# Altium integrated library Capacitor - Aluminium TH.IntLib: 4591 symbols (part 6 of 68)
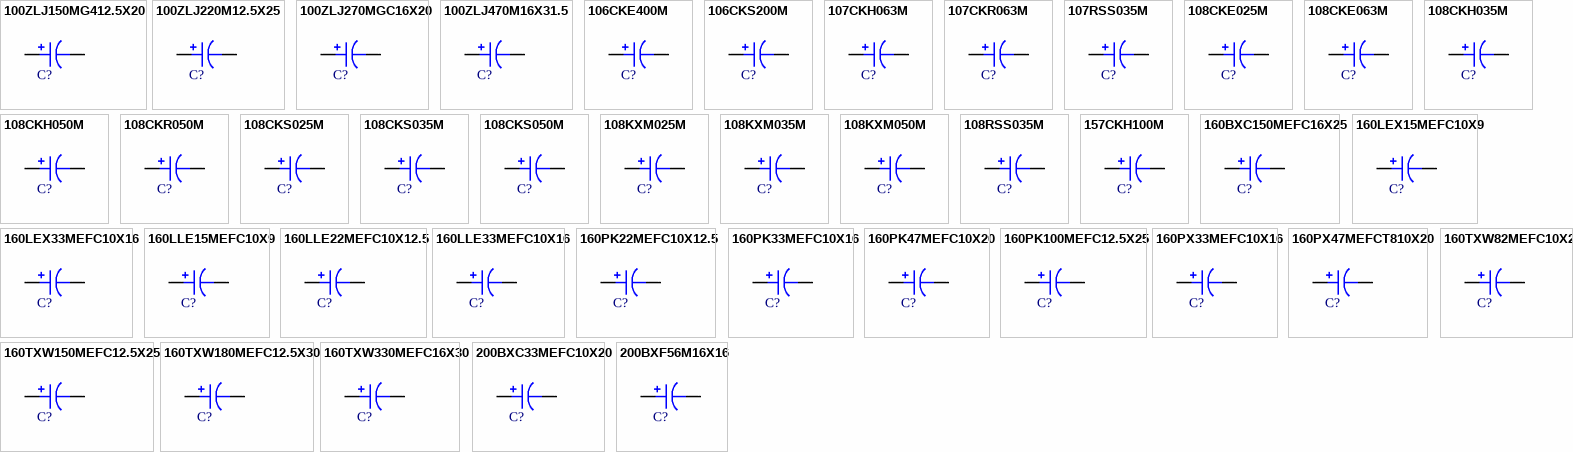
[diagram p119: symbols 100ZLJ150MG412.5X20 to 200BXF56M16X16]

## 108KXM050M
designator C?, comment 1000uF  (value not drawn)
RADIAL LOW Z; Part Number: 108KXM050M; Manufacturer: Illinois Capacitor; TemperatureRange: -55C ~ 105C; Tolerance: 20%; Voltage: 50V; Type: Polar; Ripple Current: 2.85A; Value: 1000uF; PartId: 26868; Supplier 1: Digi-Key; Supplier Part Number 1: 1572-1061-ND; ComponentLink1Description: Datasheet; ComponentLink1URL: http://www.illinoiscapacitor.com/pdf/seriesDocuments/KXM%20series.pdf; ComponentLink2Description: Digi-Key Listing; ComponentLink2URL: https://www.digikey.com/product-detail/en/illinois-capacitor/108KXM050M/1572-1061-ND/5343991; Price: 1.27; Device Package: Radial, Can, 16mm
footprint CAP AL TH D16 L7.5 H27
pins: 1, 2

## 108RSS035M
designator C?, comment 1000uF  (value not drawn)
CAP ALUM 1000UF 20% 35V T/H; Part Number: 108RSS035M; Manufacturer: Illinois Capacitor; TemperatureRange: -40C ~ 85C; Type: Polar; Ripple Current: 1A @ 120Hz; Value: 1000uF; PartId: 26213; Supplier 1: Digi-Key; Supplier Part Number 1: 1572-1320-ND; ComponentLink1Description: Datasheet; ComponentLink1URL: http://www.illinoiscapacitor.com/pdf/seriesDocuments/RSS%20series.pdf; ComponentLink2Description: Digi-Key Listing; ComponentLink2URL: https://www.digikey.com/product-detail/en/illinois-capacitor/108RSS035M/1572-1320-ND/5410893; Tolerance: 20%; Voltage: 35V; Price: 0.99; Device Package: Radial, Can, 16mm
footprint CAP AL TH D16 L7.5 H16.5
pins: 1, 2

## 157CKH100M
designator C?, comment 150uF  (value not drawn)
RADIAL 105C LYTIC; Part Number: 157CKH100M; Manufacturer: Illinois Capacitor; TemperatureRange: -40C ~ 105C; Tolerance: 20%; Voltage: 100V; Type: Polar; Ripple Current: 410mA; Value: 150uF; PartId: 23001; Supplier 1: Digi-Key; Supplier Part Number 1: 1572-1076-ND; ComponentLink1Description: Datasheet; ComponentLink1URL: http://www.illinoiscapacitor.com/pdf/seriesDocuments/CKH_CKE%20series.pdf; ComponentLink2Description: Digi-Key Listing; ComponentLink2URL: https://www.digikey.com/product-detail/en/illinois-capacitor/157CKH100M/1572-1076-ND/5344006; Price: 0; Device Package: Radial, Can, 12.5mm
footprint CAP AL TH D12.5 L5 H21.5
pins: 1, 2

## 160BXC150MEFC16X25
designator C?, comment 150uF  (value not drawn)
CAP ALUM 150UF 20% 160V RADIAL; Part Number: 160BXC150MEFC16X25; Manufacturer: Rubycon; TemperatureRange: -25C ~ 105C; Type: Polar; Ripple Current: 1.89A; Value: 150uF; PartId: 26915; Supplier 1: Digi-Key; Supplier Part Number 1: 1189-2178-ND; ComponentLink1Description: Datasheet; ComponentLink1URL: http://www.rubycon.co.jp/en/catalog/e_pdfs/aluminum/e_bxc.pdf; ComponentLink2Description: Digi-Key Listing; ComponentLink2URL: https://www.digikey.com/product-detail/en/rubycon/160BXC150MEFC16X25/1189-2178-ND/4842245; Tolerance: 20%; Voltage: 160V; Price: 1.65; Device Package: Radial, Can, 16mm
footprint CAP AL TH D16 L7.5 H27
pins: 1, 2

## 160LEX15MEFC10X9
designator C?, comment 15uF  (value not drawn)
CAP ALUM 15UF 20% 160V RADIAL; Part Number: 160LEX15MEFC10X9; Manufacturer: Rubycon; TemperatureRange: -40C ~ 125C; Type: Polar; Ripple Current: 95mA; Value: 15uF; PartId: 24473; Supplier 1: Digi-Key; Supplier Part Number 1: 1189-2696-ND; ComponentLink1Description: Datasheet; ComponentLink1URL: http://www.rubycon.co.jp/en/catalog/e_pdfs/aluminum/e_lex.pdf; ComponentLink2Description: Digi-Key Listing; ComponentLink2URL: https://www.digikey.com/product-detail/en/rubycon/160LEX15MEFC10X9/1189-2696-ND/5051825; Tolerance: 20%; Voltage: 160V; Price: 0.61; Device Package: Radial, Can, 10mm
footprint CAP AL TH D10 L5 H12.5
pins: 1, 2

## 160LEX33MEFC10X16
designator C?, comment 33uF  (value not drawn)
CAP ALUM 33UF 20% 160V RADIAL; Part Number: 160LEX33MEFC10X16; Manufacturer: Rubycon; TemperatureRange: -40C ~ 125C; Type: Polar; Ripple Current: 158mA; Value: 33uF; PartId: 25634; Supplier 1: Digi-Key; Supplier Part Number 1: 1189-2698-ND; ComponentLink1Description: Datasheet; ComponentLink1URL: http://www.rubycon.co.jp/en/catalog/e_pdfs/aluminum/e_lex.pdf; ComponentLink2Description: Digi-Key Listing; ComponentLink2URL: https://www.digikey.com/product-detail/en/rubycon/160LEX33MEFC10X16/1189-2698-ND/5051827; Tolerance: 20%; Voltage: 160V; Price: 0.72; Device Package: Radial, Can, 10mm
footprint CAP AL TH D10 L5 H22
pins: 1, 2

## 160LLE15MEFC10X9
designator C?, comment 15uF  (value not drawn)
CAP ALUM 15UF 20% 160V RADIAL; Part Number: 160LLE15MEFC10X9; Manufacturer: Rubycon; TemperatureRange: -40C ~ 105C; Ripple Current: 95mA; Value: 15uF; PartId: 24461; Supplier 1: Digi-Key; Supplier Part Number 1: 1189-1080-ND; ComponentLink1Description: Datasheet; ComponentLink1URL: http://www.rubycon.co.jp/en/catalog/e_pdfs/aluminum/e_lle.pdf; ComponentLink2Description: Digi-Key Listing; ComponentLink2URL: https://www.digikey.com/product-detail/en/rubycon/160LLE15MEFC10X9/1189-1080-ND/3134028; Tolerance: 20%; Voltage: 160V; Price: 0.51; Device Package: Radial, Can, 10mm
footprint CAP AL TH D10 L5 H12.5
pins: 1, 2

## 160LLE22MEFC10X12.5
designator C?, comment 22uF  (value not drawn)
CAP ALUM 22UF 20% 160V RADIAL; Part Number: 160LLE22MEFC10X12.5; Manufacturer: Rubycon; TemperatureRange: -40C ~ 105C; Ripple Current: 121mA; Value: 22uF; PartId: 24948; Supplier 1: Digi-Key; Supplier Part Number 1: 1189-1082-ND; ComponentLink1Description: Datasheet; ComponentLink1URL: http://www.rubycon.co.jp/en/catalog/e_pdfs/aluminum/e_lle.pdf; ComponentLink2Description: Digi-Key Listing; ComponentLink2URL: https://www.digikey.com/product-detail/en/rubycon/160LLE22MEFC10X12.5/1189-1082-ND/3134031; Tolerance: 20%; Voltage: 160V; Price: 0.52; Device Package: Radial, Can, 10mm
footprint CAP AL TH D10 L5 H14.5
pins: 1, 2

## 160LLE33MEFC10X16
designator C?, comment 33uF  (value not drawn)
CAP ALUM 33UF 20% 160V RADIAL; Part Number: 160LLE33MEFC10X16; Manufacturer: Rubycon; TemperatureRange: -40C ~ 105C; Ripple Current: 158mA; Value: 33uF; PartId: 25621; Supplier 1: Digi-Key; Supplier Part Number 1: 1189-1083-ND; ComponentLink1Description: Datasheet; ComponentLink1URL: http://www.rubycon.co.jp/en/catalog/e_pdfs/aluminum/e_lle.pdf; ComponentLink2Description: Digi-Key Listing; ComponentLink2URL: https://www.digikey.com/product-detail/en/rubycon/160LLE33MEFC10X16/1189-1083-ND/3134033; Tolerance: 20%; Voltage: 160V; Price: 0.7; Device Package: Radial, Can, 10mm
footprint CAP AL TH D10 L5 H22
pins: 1, 2

## 160PK22MEFC10X12.5
designator C?, comment 22uF  (value not drawn)
CAP ALUM 22UF 20% 160V RADIAL; Part Number: 160PK22MEFC10X12.5; Manufacturer: Rubycon; TemperatureRange: -40C ~ 85C; Ripple Current: 130mA; Value: 22uF; PartId: 24967; Supplier 1: Digi-Key; Supplier Part Number 1: 1189-1088-ND; ComponentLink1Description: Datasheet; ComponentLink1URL: http://www.rubycon.co.jp/en/catalog/e_pdfs/aluminum/e_pk.pdf; ComponentLink2Description: Digi-Key Listing; ComponentLink2URL: https://www.digikey.com/product-detail/en/rubycon/160PK22MEFC10X12.5/1189-1088-ND/3134041; Tolerance: 20%; Voltage: 160V; Price: 0.53; Device Package: Radial, Can, 10mm
footprint CAP AL TH D10 L5 H14.5
pins: 1, 2

## 160PK33MEFC10X16
designator C?, comment 33uF  (value not drawn)
CAP ALUM 33UF 20% 160V RADIAL; Part Number: 160PK33MEFC10X16; Manufacturer: Rubycon; TemperatureRange: -40C ~ 85C; Ripple Current: 180mA; Value: 33uF; PartId: 25528; Supplier 1: Digi-Key; Supplier Part Number 1: 1189-1089-ND; ComponentLink1Description: Datasheet; ComponentLink1URL: http://www.rubycon.co.jp/en/catalog/e_pdfs/aluminum/e_pk.pdf; ComponentLink2Description: Digi-Key Listing; ComponentLink2URL: https://www.digikey.com/product-detail/en/rubycon/160PK33MEFC10X16/1189-1089-ND/3134042; Tolerance: 20%; Voltage: 160V; Price: 0.6; Device Package: Radial, Can, 10mm
footprint CAP AL TH D10 L5 H22
pins: 1, 2

## 160PK47MEFC10X20
designator C?, comment 47uF  (value not drawn)
CAP ALUM 47UF 20% 160V RADIAL; Part Number: 160PK47MEFC10X20; Manufacturer: Rubycon; TemperatureRange: -40C ~ 85C; Ripple Current: 230mA; Value: 47uF; PartId: 25901; Supplier 1: Digi-Key; Supplier Part Number 1: 1189-1090-ND; ComponentLink1Description: Datasheet; ComponentLink1URL: http://www.rubycon.co.jp/en/catalog/e_pdfs/aluminum/e_pk.pdf; ComponentLink2Description: Digi-Key Listing; ComponentLink2URL: https://www.digikey.com/product-detail/en/rubycon/160PK47MEFC10X20/1189-1090-ND/3134044; Tolerance: 20%; Voltage: 160V; Price: 0.68; Device Package: Radial, Can, 10mm
footprint CAP AL TH D10 L5 H22
pins: 1, 2

## 160PK100MEFC12.5X25
designator C?, comment 100uF  (value not drawn)
CAP ALUM 100UF 20% 160V RADIAL; Part Number: 160PK100MEFC12.5X25; Manufacturer: Rubycon; TemperatureRange: -40C ~ 85C; Ripple Current: 430mA; Value: 100uF; PartId: 24151; Supplier 1: Digi-Key; Supplier Part Number 1: 1189-1085-ND; ComponentLink1Description: Datasheet; ComponentLink1URL: http://www.rubycon.co.jp/en/catalog/e_pdfs/aluminum/e_pk.pdf; ComponentLink2Description: Digi-Key Listing; ComponentLink2URL: https://www.digikey.com/product-detail/en/rubycon/160PK100MEFC12.5X25/1189-1085-ND/3134036; Tolerance: 20%; Voltage: 160V; Price: 1.51; Device Package: Radial, Can, 12.5mm
footprint CAP AL TH D12.5 L5 H27
pins: 1, 2

## 160PX33MEFC10X16
designator C?, comment 33uF  (value not drawn)
CAP ALUM 33UF 20% 160V RADIAL; Part Number: 160PX33MEFC10X16; Manufacturer: Rubycon; TemperatureRange: -40C ~ 105C; Type: Polar; Ripple Current: 125mA; Value: 33uF; PartId: 25557; Supplier 1: Digi-Key; Supplier Part Number 1: 1189-1092-ND; ComponentLink1Description: Datasheet; ComponentLink1URL: http://www.rubycon.co.jp/en/catalog/e_pdfs/aluminum/e_px.pdf; ComponentLink2Description: Digi-Key Listing; ComponentLink2URL: https://www.digikey.com/product-detail/en/rubycon/160PX33MEFC10X16/1189-1092-ND/3134047; Tolerance: 20%; Voltage: 160V; Price: 0.64; Device Package: Radial, Can, 10mm
footprint CAP AL TH D10 L5 H22
pins: 1, 2

## 160PX47MEFCT810X20
designator C?, comment 47uF  (value not drawn)
CAP ALUM 47UF 20% 160V RADIAL; Part Number: 160PX47MEFCT810X20; Manufacturer: Rubycon; TemperatureRange: -40C ~ 105C; Type: Polar; Ripple Current: 150mA; Value: 47uF; PartId: 25794; Supplier 1: Digi-Key; Supplier Part Number 1: 1189-1531-3-ND; ComponentLink1Description: Datasheet; ComponentLink1URL: http://www.rubycon.co.jp/en/catalog/e_pdfs/aluminum/e_px.pdf; ComponentLink2Description: Digi-Key Listing; ComponentLink2URL: https://www.digikey.com/product-detail/en/rubycon/160PX47MEFCT810X20/1189-1531-3-ND/3134811; Tolerance: 20%; Voltage: 160V; Price: 0.2701; Device Package: Radial, Can, 10mm
footprint CAP AL TH D10 L5 H22
pins: 1, 2

## 160TXW82MEFC10X25
designator C?, comment 82uF  (value not drawn)
CAP ALUM 82UF 20% 160V RADIAL; Part Number: 160TXW82MEFC10X25; Manufacturer: Rubycon; TemperatureRange: -25C ~ 105C; Type: Polar; Ripple Current: 430mA; Value: 82uF; PartId: 26197; Supplier 1: Digi-Key; Supplier Part Number 1: 1189-1115-ND; ComponentLink1Description: Datasheet; ComponentLink1URL: http://www.rubycon.co.jp/en/catalog/e_pdfs/aluminum/e_txw.pdf; ComponentLink2Description: Digi-Key Listing; ComponentLink2URL: https://www.digikey.com/product-detail/en/rubycon/160TXW82MEFC10X25/1189-1115-ND/3134074; Tolerance: 20%; Voltage: 160V; Price: 1.49; Device Package: Radial, Can, 10mm
footprint CAP AL TH D10 L5 H30
pins: 1, 2

## 160TXW150MEFC12.5X25
designator C?, comment 150uF  (value not drawn)
CAP ALUM 150UF 20% 160V RADIAL; Part Number: 160TXW150MEFC12.5X25; Manufacturer: Rubycon; TemperatureRange: -25C ~ 105C; Type: Polar; Ripple Current: 660mA; Value: 150uF; PartId: 24390; Supplier 1: Digi-Key; Supplier Part Number 1: 1189-1096-ND; ComponentLink1Description: Datasheet; ComponentLink1URL: http://www.rubycon.co.jp/en/catalog/e_pdfs/aluminum/e_txw.pdf; ComponentLink2Description: Digi-Key Listing; ComponentLink2URL: https://www.digikey.com/product-detail/en/rubycon/160TXW150MEFC12.5X25/1189-1096-ND/3134053; Tolerance: 20%; Voltage: 160V; Price: 1.79; Device Package: Radial, Can, 12.5mm
footprint CAP AL TH D12.5 L5 H35.5
pins: 1, 2

## 160TXW180MEFC12.5X30
designator C?, comment 180uF  (value not drawn)
CAP ALUM 180UF 20% 160V RADIAL; Part Number: 160TXW180MEFC12.5X30; Manufacturer: Rubycon; TemperatureRange: -25C ~ 105C; Type: Polar; Ripple Current: 770mA; Value: 180uF; PartId: 24412; Supplier 1: Digi-Key; Supplier Part Number 1: 1189-1098-ND; ComponentLink1Description: Datasheet; ComponentLink1URL: http://www.rubycon.co.jp/en/catalog/e_pdfs/aluminum/e_txw.pdf; ComponentLink2Description: Digi-Key Listing; ComponentLink2URL: https://www.digikey.com/product-detail/en/rubycon/160TXW180MEFC12.5X30/1189-1098-ND/3134057; Tolerance: 20%; Voltage: 160V; Price: 2.05; Device Package: Radial, Can, 12.5mm
footprint CAP AL TH D12.5 L5 H35.5
pins: 1, 2

## 160TXW330MEFC16X30
designator C?, comment 330uF  (value not drawn)
CAP ALUM 330UF 20% 160V RADIAL; Part Number: 160TXW330MEFC16X30; Manufacturer: Rubycon; TemperatureRange: -25C ~ 105C; Type: Polar; Ripple Current: 1.2A; Value: 330uF; PartId: 27201; Supplier 1: Digi-Key; Supplier Part Number 1: 1189-1102-ND; ComponentLink1Description: Datasheet; ComponentLink1URL: http://www.rubycon.co.jp/en/catalog/e_pdfs/aluminum/e_txw.pdf; ComponentLink2Description: Digi-Key Listing; ComponentLink2URL: https://www.digikey.com/product-detail/en/rubycon/160TXW330MEFC16X30/1189-1102-ND/3134061; Tolerance: 20%; Voltage: 160V; Price: 2.09; Device Package: Radial, Can, 16mm
footprint CAP AL TH D16 L7.5 H33.5
pins: 1, 2

## 200BXC33MEFC10X20
designator C?, comment 33uF  (value not drawn)
CAP ALUM 33UF 20% 200V RADIAL; Part Number: 200BXC33MEFC10X20; Manufacturer: Rubycon; TemperatureRange: -25C ~ 105C; Type: Polar; Ripple Current: 260mA; Value: 33uF; PartId: 25938; Supplier 1: Digi-Key; Supplier Part Number 1: 1189-2207-ND; ComponentLink1Description: Datasheet; ComponentLink1URL: http://www.rubycon.co.jp/en/catalog/e_pdfs/aluminum/e_bxc.pdf; ComponentLink2Description: Digi-Key Listing; ComponentLink2URL: https://www.digikey.com/product-detail/en/rubycon/200BXC33MEFC10X20/1189-2207-ND/3563739; Tolerance: 20%; Voltage: 200V; Price: 0.74; Device Package: Radial, Can, 10mm
footprint CAP AL TH D10 L5 H22
pins: 1, 2

## 200BXF56M16X16
designator C?, comment 56uF  (value not drawn)
CAP ALUM 56UF 20% 200V RADIAL; Part Number: 200BXF56M16X16; Manufacturer: Rubycon; TemperatureRange: -25C ~ 105C; Ripple Current: 540mA; Value: 56uF; PartId: 26333; Supplier 1: Digi-Key; Supplier Part Number 1: 1189-1164-ND; ComponentLink1Description: Datasheet; ComponentLink1URL: http://www.rubycon.co.jp/en/catalog/e_pdfs/aluminum/e_bxf.pdf; ComponentLink2Description: Digi-Key Listing; ComponentLink2URL: https://www.digikey.com/product-detail/en/rubycon/200BXF56M16X16/1189-1164-ND/3134122; Tolerance: 20%; Voltage: 200V; Price: 1.43; Device Package: Radial, Can, 16mm
footprint CAP AL TH D16 L7.5 H20
pins: 1, 2

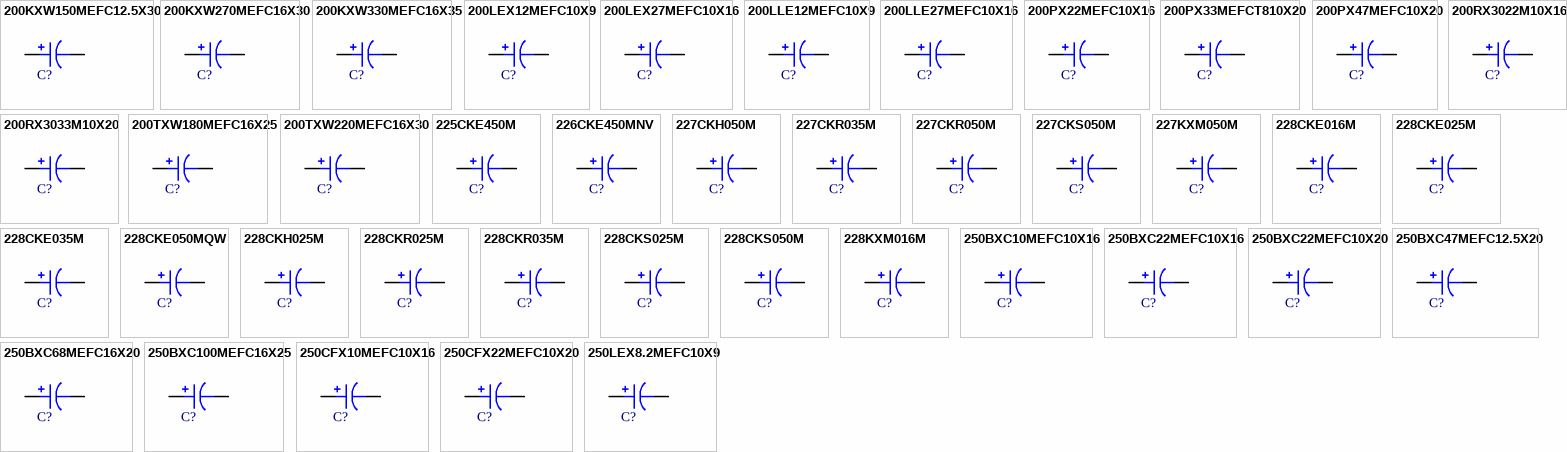
[diagram p9: symbols 200KXW150MEFC12.5X30 to 250LEX8.2MEFC10X9]

## 200KXW150MEFC12.5X30
designator C?, comment 150uF  (value not drawn)
CAP ALUM 150UF 20% 200V RADIAL; Part Number: 200KXW150MEFC12.5X30; Manufacturer: Rubycon; TemperatureRange: -25C ~ 105C; Type: Polar; Ripple Current: 620mA; Value: 150uF; PartId: 24405; Supplier 1: Digi-Key; Supplier Part Number 1: 1189-1167-ND; ComponentLink1Description: Datasheet; ComponentLink1URL: http://www.rubycon.co.jp/en/catalog/e_pdfs/aluminum/e_kxw.pdf; ComponentLink2Description: Digi-Key Listing; ComponentLink2URL: https://www.digikey.com/product-detail/en/rubycon/200KXW150MEFC12.5X30/1189-1167-ND/3134125; Tolerance: 20%; Voltage: 200V; Price: 1.94; Device Package: Radial, Can, 12.5mm
footprint CAP AL TH D12.5 L5 H35.5
pins: 1, 2

## 200KXW270MEFC16X30
designator C?, comment 270uF  (value not drawn)
CAP ALUM 270UF 20% 200V RADIAL; Part Number: 200KXW270MEFC16X30; Manufacturer: Rubycon; TemperatureRange: -25C ~ 105C; Type: Polar; Ripple Current: 870mA; Value: 270uF; PartId: 27226; Supplier 1: Digi-Key; Supplier Part Number 1: 1189-1169-ND; ComponentLink1Description: Datasheet; ComponentLink1URL: http://www.rubycon.co.jp/en/catalog/e_pdfs/aluminum/e_kxw.pdf; ComponentLink2Description: Digi-Key Listing; ComponentLink2URL: https://www.digikey.com/product-detail/en/rubycon/200KXW270MEFC16X30/1189-1169-ND/3134127; Tolerance: 20%; Voltage: 200V; Price: 2.38; Device Package: Radial, Can, 16mm
footprint CAP AL TH D16 L7.5 H33.5
pins: 1, 2

## 200KXW330MEFC16X35
designator C?, comment 330uF  (value not drawn)
CAP ALUM 330UF 20% 200V RADIAL; Part Number: 200KXW330MEFC16X35; Manufacturer: Rubycon; TemperatureRange: -25C ~ 105C; Type: Polar; Ripple Current: 1.01A; Value: 330uF; PartId: 27425; Supplier 1: Digi-Key; Supplier Part Number 1: 1189-1727-ND; ComponentLink1Description: Datasheet; ComponentLink1URL: http://www.rubycon.co.jp/en/catalog/e_pdfs/aluminum/e_kxw.pdf; ComponentLink2Description: Digi-Key Listing; ComponentLink2URL: https://www.digikey.com/product-detail/en/rubycon/200KXW330MEFC16X35/1189-1727-ND/3564555; Tolerance: 20%; Voltage: 200V; Price: 2.81; Device Package: Radial, Can, 16mm
footprint CAP AL TH D16 L7.5 H37
pins: 1, 2

## 200LEX12MEFC10X9
designator C?, comment 12uF  (value not drawn)
CAP ALUM 12UF 20% 200V RADIAL; Part Number: 200LEX12MEFC10X9; Manufacturer: Rubycon; TemperatureRange: -40C ~ 125C; Type: Polar; Ripple Current: 88mA; Value: 12uF; PartId: 24476; Supplier 1: Digi-Key; Supplier Part Number 1: 1189-2706-ND; ComponentLink1Description: Datasheet; ComponentLink1URL: http://www.rubycon.co.jp/en/catalog/e_pdfs/aluminum/e_lex.pdf; ComponentLink2Description: Digi-Key Listing; ComponentLink2URL: https://www.digikey.com/product-detail/en/rubycon/200LEX12MEFC10X9/1189-2706-ND/5051835; Tolerance: 20%; Voltage: 200V; Price: 0.65; Device Package: Radial, Can, 10mm
footprint CAP AL TH D10 L5 H12.5
pins: 1, 2

## 200LEX27MEFC10X16
designator C?, comment 27uF  (value not drawn)
CAP ALUM 27UF 20% 200V RADIAL; Part Number: 200LEX27MEFC10X16; Manufacturer: Rubycon; TemperatureRange: -40C ~ 125C; Type: Polar; Ripple Current: 149mA; Value: 27uF; PartId: 25687; Supplier 1: Digi-Key; Supplier Part Number 1: 1189-2708-ND; ComponentLink1Description: Datasheet; ComponentLink1URL: http://www.rubycon.co.jp/en/catalog/e_pdfs/aluminum/e_lex.pdf; ComponentLink2Description: Digi-Key Listing; ComponentLink2URL: https://www.digikey.com/product-detail/en/rubycon/200LEX27MEFC10X16/1189-2708-ND/5051837; Tolerance: 20%; Voltage: 200V; Price: 0.8; Device Package: Radial, Can, 10mm
footprint CAP AL TH D10 L5 H22
pins: 1, 2

## 200LLE12MEFC10X9
designator C?, comment 12uF  (value not drawn)
CAP ALUM 12UF 20% 200V RADIAL; Part Number: 200LLE12MEFC10X9; Manufacturer: Rubycon; TemperatureRange: -40C ~ 105C; Ripple Current: 88mA; Value: 12uF; PartId: 24455; Supplier 1: Digi-Key; Supplier Part Number 1: 1189-1176-ND; ComponentLink1Description: Datasheet; ComponentLink1URL: http://www.rubycon.co.jp/en/catalog/e_pdfs/aluminum/e_lle.pdf; ComponentLink2Description: Digi-Key Listing; ComponentLink2URL: https://www.digikey.com/product-detail/en/rubycon/200LLE12MEFC10X9/1189-1176-ND/3134134; Tolerance: 20%; Voltage: 200V; Price: 0.48; Device Package: Radial, Can, 10mm
footprint CAP AL TH D10 L5 H12.5
pins: 1, 2

## 200LLE27MEFC10X16
designator C?, comment 27uF  (value not drawn)
CAP ALUM 27UF 20% 200V RADIAL; Part Number: 200LLE27MEFC10X16; Manufacturer: Rubycon; TemperatureRange: -40C ~ 105C; Ripple Current: 149mA; Value: 27uF; PartId: 25551; Supplier 1: Digi-Key; Supplier Part Number 1: 1189-1178-ND; ComponentLink1Description: Datasheet; ComponentLink1URL: http://www.rubycon.co.jp/en/catalog/e_pdfs/aluminum/e_lle.pdf; ComponentLink2Description: Digi-Key Listing; ComponentLink2URL: https://www.digikey.com/product-detail/en/rubycon/200LLE27MEFC10X16/1189-1178-ND/3134136; Tolerance: 20%; Voltage: 200V; Price: 0.63; Device Package: Radial, Can, 10mm
footprint CAP AL TH D10 L5 H22
pins: 1, 2

## 200PX22MEFC10X16
designator C?, comment 22uF  (value not drawn)
CAP ALUM 22UF 20% 200V RADIAL; Part Number: 200PX22MEFC10X16; Manufacturer: Rubycon; TemperatureRange: -40C ~ 105C; Type: Polar; Ripple Current: 105mA; Value: 22uF; PartId: 25556; Supplier 1: Digi-Key; Supplier Part Number 1: 1189-1728-ND; ComponentLink1Description: Datasheet; ComponentLink1URL: http://www.rubycon.co.jp/en/catalog/e_pdfs/aluminum/e_px.pdf; ComponentLink2Description: Digi-Key Listing; ComponentLink2URL: https://www.digikey.com/product-detail/en/rubycon/200PX22MEFC10X16/1189-1728-ND/3563671; Tolerance: 20%; Voltage: 200V; Price: 0.64; Device Package: Radial, Can, 10mm
footprint CAP AL TH D10 L5 H22
pins: 1, 2

## 200PX33MEFCT810X20
designator C?, comment 33uF  (value not drawn)
CAP ALUM 33UF 20% 200V RADIAL; Part Number: 200PX33MEFCT810X20; Manufacturer: Rubycon; TemperatureRange: -40C ~ 105C; Type: Polar; Ripple Current: 140mA; Value: 33uF; PartId: 25798; Supplier 1: Digi-Key; Supplier Part Number 1: 1189-1578-2-ND; ComponentLink1Description: Datasheet; ComponentLink1URL: http://www.rubycon.co.jp/en/catalog/e_pdfs/aluminum/e_px.pdf; ComponentLink2Description: Digi-Key Listing; ComponentLink2URL: https://www.digikey.com/product-detail/en/rubycon/200PX33MEFCT810X20/1189-1578-2-ND/3134858; Tolerance: 20%; Voltage: 200V; Price: 0.2751; Device Package: Radial, Can, 10mm
footprint CAP AL TH D10 L5 H22
pins: 1, 2

## 200PX47MEFC10X20
designator C?, comment 47uF  (value not drawn)
CAP ALUM 47UF 20% 200V RADIAL; Part Number: 200PX47MEFC10X20; Manufacturer: Rubycon; TemperatureRange: -40C ~ 105C; Type: Polar; Ripple Current: 195mA; Value: 47uF; PartId: 25898; Supplier 1: Digi-Key; Supplier Part Number 1: 1189-1188-ND; ComponentLink1Description: Datasheet; ComponentLink1URL: http://www.rubycon.co.jp/en/catalog/e_pdfs/aluminum/e_px.pdf; ComponentLink2Description: Digi-Key Listing; ComponentLink2URL: https://www.digikey.com/product-detail/en/rubycon/200PX47MEFC10X20/1189-1188-ND/3134145; Tolerance: 20%; Voltage: 200V; Price: 0.68; Device Package: Radial, Can, 10mm
footprint CAP AL TH D10 L5 H22
pins: 1, 2

## 200RX3022M10X16
designator C?, comment 22uF  (value not drawn)
CAP ALUM 22UF 20% 200V RADIAL; Part Number: 200RX3022M10X16; Manufacturer: Rubycon; TemperatureRange: -25C ~ 130C; Type: Polar; Ripple Current: 240mA; Value: 22uF; PartId: 25674; Supplier 1: Digi-Key; Supplier Part Number 1: 1189-1191-ND; ComponentLink1Description: Datasheet; ComponentLink1URL: http://www.rubycon.co.jp/en/catalog/e_pdfs/aluminum/e_rx30.pdf; ComponentLink2Description: Digi-Key Listing; ComponentLink2URL: https://www.digikey.com/product-detail/en/rubycon/200RX3022M10X16/1189-1191-ND/3134148; Tolerance: 20%; Voltage: 200V; Price: 0.77; Device Package: Radial, Can, 10mm
footprint CAP AL TH D10 L5 H22
pins: 1, 2

## 200RX3033M10X20
designator C?, comment 33uF  (value not drawn)
CAP ALUM 33UF 20% 200V RADIAL; Part Number: 200RX3033M10X20; Manufacturer: Rubycon; TemperatureRange: -25C ~ 130C; Type: Polar; Ripple Current: 160mA; Value: 33uF; PartId: 25971; Supplier 1: Digi-Key; Supplier Part Number 1: 1189-1192-ND; ComponentLink1Description: Datasheet; ComponentLink1URL: http://www.rubycon.co.jp/en/catalog/e_pdfs/aluminum/e_rx30.pdf; ComponentLink2Description: Digi-Key Listing; ComponentLink2URL: https://www.digikey.com/product-detail/en/rubycon/200RX3033M10X20/1189-1192-ND/3134149; Tolerance: 20%; Voltage: 200V; Price: 0.86; Device Package: Radial, Can, 10mm
footprint CAP AL TH D10 L5 H22
pins: 1, 2

## 200TXW180MEFC16X25
designator C?, comment 180uF  (value not drawn)
CAP ALUM 180UF 20% 200V RADIAL; Part Number: 200TXW180MEFC16X25; Manufacturer: Rubycon; TemperatureRange: -25C ~ 105C; Type: Polar; Ripple Current: 850mA; Value: 180uF; PartId: 27255; Supplier 1: Digi-Key; Supplier Part Number 1: 1189-1193-ND; ComponentLink1Description: Datasheet; ComponentLink1URL: http://www.rubycon.co.jp/en/catalog/e_pdfs/aluminum/e_txw.pdf; ComponentLink2Description: Digi-Key Listing; ComponentLink2URL: https://www.digikey.com/product-detail/en/rubycon/200TXW180MEFC16X25/1189-1193-ND/3134150; Tolerance: 20%; Voltage: 200V; Price: 2.71; Device Package: Radial, Can, 16mm
footprint CAP AL TH D16 L7.5 H33.5
pins: 1, 2

## 200TXW220MEFC16X30
designator C?, comment 220uF  (value not drawn)
CAP ALUM 220UF 20% 200V RADIAL; Part Number: 200TXW220MEFC16X30; Manufacturer: Rubycon; TemperatureRange: -25C ~ 105C; Type: Polar; Ripple Current: 1.01A; Value: 220uF; PartId: 27245; Supplier 1: Digi-Key; Supplier Part Number 1: 1189-1194-ND; ComponentLink1Description: Datasheet; ComponentLink1URL: http://www.rubycon.co.jp/en/catalog/e_pdfs/aluminum/e_txw.pdf; ComponentLink2Description: Digi-Key Listing; ComponentLink2URL: https://www.digikey.com/product-detail/en/rubycon/200TXW220MEFC16X30/1189-1194-ND/3134151; Tolerance: 20%; Voltage: 200V; Price: 2.63; Device Package: Radial, Can, 16mm
footprint CAP AL TH D16 L7.5 H33.5
pins: 1, 2

## 225CKE450M
designator C?, comment 2.2uF  (value not drawn)
CAP ALUM 2.2UF 20% 450V RADIAL; Part Number: 225CKE450M; Manufacturer: Illinois Capacitor; TemperatureRange: -25C ~ 105C; Type: Polar; Ripple Current: 31mA; Value: 2.2uF; PartId: 24939; Supplier 1: Digi-Key; Supplier Part Number 1: 1572-1091-ND; ComponentLink1Description: Datasheet; ComponentLink1URL: http://www.illinoiscapacitor.com/pdf/seriesDocuments/CKH_CKE%20series.pdf; ComponentLink2Description: Digi-Key Listing; ComponentLink2URL: https://www.digikey.com/product-detail/en/illinois-capacitor/225CKE450M/1572-1091-ND/5344021; Tolerance: 20%; Voltage: 450V; Price: 0.51; Device Package: Radial, Can, 10mm
footprint CAP AL TH D10 L5 H14.5
pins: 1, 2

## 226CKE450MNV
designator C?, comment 22uF  (value not drawn)
CAP ALUM 22UF 20% 450V RADIAL; Part Number: 226CKE450MNV; Manufacturer: Illinois Capacitor; TemperatureRange: -25C ~ 105C; Type: Polar; Ripple Current: 215mA; Value: 22uF; PartId: 23723; Supplier 1: Digi-Key; Supplier Part Number 1: 1572-1094-ND; ComponentLink1Description: Datasheet; ComponentLink1URL: http://www.illinoiscapacitor.com/pdf/seriesDocuments/CKH_CKE%20series.pdf; ComponentLink2Description: Digi-Key Listing; ComponentLink2URL: https://www.digikey.com/product-detail/en/illinois-capacitor/226CKE450MNV/1572-1094-ND/5344024; Tolerance: 20%; Voltage: 450V; Price: 1.31; Device Package: Radial, Can, 12.5mm
footprint CAP AL TH D12.5 L5 H26.5
pins: 1, 2

## 227CKH050M
designator C?, comment 220uF  (value not drawn)
RADIAL 105C LYTIC; Part Number: 227CKH050M; Manufacturer: Illinois Capacitor; TemperatureRange: -40C ~ 105C; Tolerance: 20%; Voltage: 50V; Type: Polar; Ripple Current: 510mA; Value: 220uF; PartId: 25246; Supplier 1: Digi-Key; Supplier Part Number 1: 1572-1099-ND; ComponentLink1Description: Datasheet; ComponentLink1URL: http://www.illinoiscapacitor.com/pdf/seriesDocuments/CKH_CKE%20series.pdf; ComponentLink2Description: Digi-Key Listing; ComponentLink2URL: https://www.digikey.com/product-detail/en/illinois-capacitor/227CKH050M/1572-1099-ND/5344029; Price: 0.57; Device Package: Radial, Can, 10mm
footprint CAP AL TH D10 L5 H17.5
pins: 1, 2

## 227CKR035M
designator C?, comment 220uF  (value not drawn)
CAP ALUM 220UF 20% 35V THRU HOLE; Part Number: 227CKR035M; Manufacturer: Illinois Capacitor; TemperatureRange: -40C ~ 85C; Type: Polar; Ripple Current: 450mA @ 120Hz; Value: 220uF; PartId: 24861; Supplier 1: Digi-Key; Supplier Part Number 1: 1572-1399-ND; ComponentLink1Description: Datasheet; ComponentLink1URL: http://www.illinoiscapacitor.com/pdf/seriesDocuments/CKR_CKS%20series.pdf; ComponentLink2Description: Digi-Key Listing; ComponentLink2URL: https://www.digikey.com/product-detail/en/illinois-capacitor/227CKR035M/1572-1399-ND/5411724; Tolerance: 20%; Voltage: 35V; Price: 0.47; Device Package: Radial, Can, 10mm
footprint CAP AL TH D10 L5 H14.5
pins: 1, 2

## 227CKR050M
designator C?, comment 220uF  (value not drawn)
CAP ALUM 220UF 20% 50V THRU HOLE; Part Number: 227CKR050M; Manufacturer: Illinois Capacitor; TemperatureRange: -40C ~ 85C; Type: Polar; Ripple Current: 540mA @ 120Hz; Value: 220uF; PartId: 25223; Supplier 1: Digi-Key; Supplier Part Number 1: 1572-1400-ND; ComponentLink1Description: Datasheet; ComponentLink1URL: http://www.illinoiscapacitor.com/pdf/seriesDocuments/CKR_CKS%20series.pdf; ComponentLink2Description: Digi-Key Listing; ComponentLink2URL: https://www.digikey.com/product-detail/en/illinois-capacitor/227CKR050M/1572-1400-ND/5411725; Tolerance: 20%; Voltage: 50V; Price: 0.54; Device Package: Radial, Can, 10mm
footprint CAP AL TH D10 L5 H17.5
pins: 1, 2

## 227CKS050M
designator C?, comment 220uF  (value not drawn)
CAP ALUM 220UF 20% 50V THRU HOLE; Part Number: 227CKS050M; Manufacturer: Illinois Capacitor; TemperatureRange: -40C ~ 85C; Type: Polar; Ripple Current: 510mA @ 120Hz; Value: 220uF; PartId: 24780; Supplier 1: Digi-Key; Supplier Part Number 1: 1572-1401-ND; ComponentLink1Description: Datasheet; ComponentLink1URL: http://www.illinoiscapacitor.com/pdf/seriesDocuments/CKR_CKS%20series.pdf; ComponentLink2Description: Digi-Key Listing; ComponentLink2URL: https://www.digikey.com/product-detail/en/illinois-capacitor/227CKS050M/1572-1401-ND/5411730; Tolerance: 20%; Voltage: 50V; Price: 0.44; Device Package: Radial, Can, 10mm
footprint CAP AL TH D10 L5 H14.5
pins: 1, 2

## 227KXM050M
designator C?, comment 220uF  (value not drawn)
CAP ALUM 220UF 20% 50V THRU HOLE; Part Number: 227KXM050M; Manufacturer: Illinois Capacitor; TemperatureRange: -55C ~ 105C; Type: Polar; Ripple Current: 568mA @ 120Hz; Impedance: 120 mOhm; Value: 220uF; PartId: 25240; Supplier 1: Digi-Key; Supplier Part Number 1: 1572-1402-ND; ComponentLink1Description: Datasheet; ComponentLink1URL: http://www.illinoiscapacitor.com/pdf/seriesDocuments/KXM%20series.pdf; ComponentLink2Description: Digi-Key Listing; ComponentLink2URL: https://www.digikey.com/product-detail/en/illinois-capacitor/227KXM050M/1572-1402-ND/5411743; Tolerance: 20%; Voltage: 50V; Price: 0.56; Device Package: Radial, Can, 10mm
footprint CAP AL TH D10 L5 H17.5
pins: 1, 2

## 228CKE016M
designator C?, comment 2200uF  (value not drawn)
CAP ALUM 2200UF 20% 16V RADIAL; Part Number: 228CKE016M; Manufacturer: Illinois Capacitor; TemperatureRange: -40C ~ 105C; Type: Polar; Ripple Current: 1.11A; Value: 2200uF; PartId: 22958; Supplier 1: Digi-Key; Supplier Part Number 1: 1572-1106-ND; ComponentLink1Description: Datasheet; ComponentLink1URL: http://www.illinoiscapacitor.com/pdf/seriesDocuments/CKH_CKE%20series.pdf; ComponentLink2Description: Digi-Key Listing; ComponentLink2URL: https://www.digikey.com/product-detail/en/illinois-capacitor/228CKE016M/1572-1106-ND/5344036; Tolerance: 20%; Voltage: 16V; Price: 0; Device Package: Radial, Can, 12.5mm
footprint CAP AL TH D12.5 L5 H21.5
pins: 1, 2

## 228CKE025M
designator C?, comment 2200uF  (value not drawn)
CAP ALUM 2200UF 20% 25V RADIAL; Part Number: 228CKE025M; Manufacturer: Illinois Capacitor; TemperatureRange: -40C ~ 105C; Type: Polar; Ripple Current: 1.175A @ 120Hz; Value: 2200uF; PartId: 23711; Supplier 1: Digi-Key; Supplier Part Number 1: 1572-1409-ND; ComponentLink1Description: Datasheet; ComponentLink1URL: http://www.illinoiscapacitor.com/pdf/seriesDocuments/CKH_CKE%20series.pdf; ComponentLink2Description: Digi-Key Listing; ComponentLink2URL: https://www.digikey.com/product-detail/en/illinois-capacitor/228CKE025M/1572-1409-ND/5411833; Tolerance: 20%; Voltage: 25V; Price: 1.17; Device Package: Radial, Can, 12.5mm
footprint CAP AL TH D12.5 L5 H26.5
pins: 1, 2

## 228CKE035M
designator C?, comment 2200uF  (value not drawn)
CAP ALUM 2200UF 20% 35V RADIAL; Part Number: 228CKE035M; Manufacturer: Illinois Capacitor; TemperatureRange: -40C ~ 105C; Type: Polar; Ripple Current: 1.5A @ 120Hz; Value: 2200uF; PartId: 26656; Supplier 1: Digi-Key; Supplier Part Number 1: 1572-1410-ND; ComponentLink1Description: Datasheet; ComponentLink1URL: http://www.illinoiscapacitor.com/pdf/seriesDocuments/CKH_CKE%20series.pdf; ComponentLink2Description: Digi-Key Listing; ComponentLink2URL: https://www.digikey.com/product-detail/en/illinois-capacitor/228CKE035M/1572-1410-ND/5411834; Tolerance: 20%; Voltage: 35V; Price: 1.59; Device Package: Radial, Can, 16mm
footprint CAP AL TH D16 L7.5 H26.5
pins: 1, 2

## 228CKE050MQW
designator C?, comment 2200uF  (value not drawn)
CAP ALUM 2200UF 20% 50V RADIAL; Part Number: 228CKE050MQW; Manufacturer: Illinois Capacitor; TemperatureRange: -40C ~ 105C; Type: Polar; Ripple Current: 1.41A; Value: 2200uF; PartId: 27049; Supplier 1: Digi-Key; Supplier Part Number 1: 1572-1107-ND; ComponentLink1Description: Datasheet; ComponentLink1URL: http://www.illinoiscapacitor.com/pdf/seriesDocuments/CKH_CKE%20series.pdf; ComponentLink2Description: Digi-Key Listing; ComponentLink2URL: https://www.digikey.com/product-detail/en/illinois-capacitor/228CKE050MQW/1572-1107-ND/5344037; Tolerance: 20%; Voltage: 50V; Price: 1.56; Device Package: Radial, Can, 16mm
footprint CAP AL TH D16 L7.5 H33.5
pins: 1, 2

## 228CKH025M
designator C?, comment 2200uF  (value not drawn)
CAP ALUM 2200UF 20% 25V T/H; Part Number: 228CKH025M; Manufacturer: Illinois Capacitor; TemperatureRange: -40C ~ 105C; Type: Polar; Ripple Current: 1.21A @ 120Hz; Value: 2200uF; PartId: 26542; Supplier 1: Digi-Key; Supplier Part Number 1: 1572-1411-ND; ComponentLink1Description: Datasheet; ComponentLink1URL: http://www.illinoiscapacitor.com/pdf/seriesDocuments/CKH_CKE%20series.pdf; ComponentLink2Description: Digi-Key Listing; ComponentLink2URL: https://www.digikey.com/product-detail/en/illinois-capacitor/228CKH025M/1572-1411-ND/5411838; Tolerance: 20%; Voltage: 25V; Price: 1; Device Package: Radial, Can, 16mm
footprint CAP AL TH D16 L7.5 H26.5
pins: 1, 2

## 228CKR025M
designator C?, comment 2200uF  (value not drawn)
RADIAL 85C LYTIC; Part Number: 228CKR025M; Manufacturer: Illinois Capacitor; TemperatureRange: -40C ~ 85C; Tolerance: 20%; Voltage: 25V; Type: Polar; Ripple Current: 1.77A; Value: 2200uF; PartId: 26550; Supplier 1: Digi-Key; Supplier Part Number 1: 1572-1108-ND; ComponentLink1Description: Datasheet; ComponentLink1URL: http://www.illinoiscapacitor.com/pdf/seriesDocuments/CKR_CKS%20series.pdf; ComponentLink2Description: Digi-Key Listing; ComponentLink2URL: https://www.digikey.com/product-detail/en/illinois-capacitor/228CKR025M/1572-1108-ND/5344038; Price: 1.05; Device Package: Radial, Can, 16mm
footprint CAP AL TH D16 L7.5 H26.5
pins: 1, 2

## 228CKR035M
designator C?, comment 2200uF  (value not drawn)
RADIAL 85C LYTIC; Part Number: 228CKR035M; Manufacturer: Illinois Capacitor; TemperatureRange: -40C ~ 85C; Tolerance: 20%; Voltage: 35V; Type: Polar; Ripple Current: 2.09A; Value: 2200uF; PartId: 27040; Supplier 1: Digi-Key; Supplier Part Number 1: 1572-1109-ND; ComponentLink1Description: Datasheet; ComponentLink1URL: http://www.illinoiscapacitor.com/pdf/seriesDocuments/CKR_CKS%20series.pdf; ComponentLink2Description: Digi-Key Listing; ComponentLink2URL: https://www.digikey.com/product-detail/en/illinois-capacitor/228CKR035M/1572-1109-ND/5344039; Price: 1.54; Device Package: Radial, Can, 16mm
footprint CAP AL TH D16 L7.5 H33.5
pins: 1, 2

## 228CKS025M
designator C?, comment 2200uF  (value not drawn)
CAP ALUM 2200UF 20% 25V T/H; Part Number: 228CKS025M; Manufacturer: Illinois Capacitor; TemperatureRange: -40C ~ 85C; Type: Polar; Ripple Current: 1.8A @ 120Hz; Value: 2200uF; PartId: 23675; Supplier 1: Digi-Key; Supplier Part Number 1: 1572-1412-ND; ComponentLink1Description: Datasheet; ComponentLink1URL: http://www.illinoiscapacitor.com/pdf/seriesDocuments/CKR_CKS%20series.pdf; ComponentLink2Description: Digi-Key Listing; ComponentLink2URL: https://www.digikey.com/product-detail/en/illinois-capacitor/228CKS025M/1572-1412-ND/5411843; Tolerance: 20%; Voltage: 25V; Price: 1; Device Package: Radial, Can, 12.5mm
footprint CAP AL TH D12.5 L5 H26.5
pins: 1, 2

## 228CKS050M
designator C?, comment 2200uF  (value not drawn)
CAP ALUM 2200UF 20% 50V T/H; Part Number: 228CKS050M; Manufacturer: Illinois Capacitor; TemperatureRange: -40C ~ 85C; Type: Polar; Ripple Current: 2.39A @ 120Hz; Value: 2200uF; PartId: 27371; Supplier 1: Digi-Key; Supplier Part Number 1: 1572-1413-ND; ComponentLink1Description: Datasheet; ComponentLink1URL: http://www.illinoiscapacitor.com/pdf/seriesDocuments/CKR_CKS%20series.pdf; ComponentLink2Description: Digi-Key Listing; ComponentLink2URL: https://www.digikey.com/product-detail/en/illinois-capacitor/228CKS050M/1572-1413-ND/5411845; Tolerance: 20%; Voltage: 50V; Price: 1.79; Device Package: Radial, Can, 16mm
footprint CAP AL TH D16 L7.5 H37
pins: 1, 2

## 228KXM016M
designator C?, comment 2200uF  (value not drawn)
CAP ALUM 2200UF 20% 16V T/H; Part Number: 228KXM016M; Manufacturer: Illinois Capacitor; TemperatureRange: -55C ~ 105C; Type: Polar; Ripple Current: 2.078A @ 120Hz; Impedance: 45 mOhm; Value: 2200uF; PartId: 23862; Supplier 1: Digi-Key; Supplier Part Number 1: 1572-1414-ND; ComponentLink1Description: Datasheet; ComponentLink1URL: http://www.illinoiscapacitor.com/pdf/seriesDocuments/KXM%20series.pdf; ComponentLink2Description: Digi-Key Listing; ComponentLink2URL: https://www.digikey.com/product-detail/en/illinois-capacitor/228KXM016M/1572-1414-ND/5411851; Tolerance: 20%; Voltage: 16V; Price: 0.74; Device Package: Radial, Can, 12.5mm
footprint CAP AL TH D12.5 L5 H27
pins: 1, 2

## 250BXC10MEFC10X16
designator C?, comment 10uF  (value not drawn)
CAP ALUM 10UF 20% 250V RADIAL; Part Number: 250BXC10MEFC10X16; Manufacturer: Rubycon; TemperatureRange: -25C ~ 105C; Type: Polar; Ripple Current: 96mA @ 120Hz; Value: 10uF; PartId: 25606; Supplier 1: Digi-Key; Supplier Part Number 1: 1189-3680-ND; ComponentLink1Description: Datasheet; ComponentLink1URL: http://www.rubycon.co.jp/en/catalog/e_pdfs/aluminum/e_bxc.pdf; ComponentLink2Description: Digi-Key Listing; ComponentLink2URL: https://www.digikey.com/product-detail/en/rubycon/250BXC10MEFC10X16/1189-3680-ND/3563641; Tolerance: 20%; Voltage: 250V; Price: 0.69; Device Package: Radial, Can, 10mm
footprint CAP AL TH D10 L5 H22
pins: 1, 2

## 250BXC22MEFC10X16
designator C?, comment 22uF  (value not drawn)
CAP ALUM 22UF 20% 250V RADIAL; Part Number: 250BXC22MEFC10X16; Manufacturer: Rubycon; TemperatureRange: -25C ~ 105C; Type: Polar; Ripple Current: 188mA; Value: 22uF; PartId: 25542; Supplier 1: Digi-Key; Supplier Part Number 1: 1189-1892-ND; ComponentLink1Description: Datasheet; ComponentLink1URL: http://www.rubycon.co.jp/en/catalog/e_pdfs/aluminum/e_bxc.pdf; ComponentLink2Description: Digi-Key Listing; ComponentLink2URL: https://www.digikey.com/product-detail/en/rubycon/250BXC22MEFC10X16/1189-1892-ND/3563640; Tolerance: 20%; Voltage: 250V; Price: 0.63; Device Package: Radial, Can, 10mm
footprint CAP AL TH D10 L5 H22
pins: 1, 2

## 250BXC22MEFC10X20
designator C?, comment 22uF  (value not drawn)
CAP ALUM 22UF 20% 250V RADIAL; Part Number: 250BXC22MEFC10X20; Manufacturer: Rubycon; TemperatureRange: -25C ~ 105C; Type: Polar; Ripple Current: 200mA; Value: 22uF; PartId: 25955; Supplier 1: Digi-Key; Supplier Part Number 1: 1189-2213-ND; ComponentLink1Description: Datasheet; ComponentLink1URL: http://www.rubycon.co.jp/en/catalog/e_pdfs/aluminum/e_bxc.pdf; ComponentLink2Description: Digi-Key Listing; ComponentLink2URL: https://www.digikey.com/product-detail/en/rubycon/250BXC22MEFC10X20/1189-2213-ND/3563741; Tolerance: 20%; Voltage: 250V; Price: 0.79; Device Package: Radial, Can, 10mm
footprint CAP AL TH D10 L5 H22
pins: 1, 2

## 250BXC47MEFC12.5X20
designator C?, comment 47uF  (value not drawn)
CAP ALUM 47UF 20% 250V RADIAL; Part Number: 250BXC47MEFC12.5X20; Manufacturer: Rubycon; TemperatureRange: -25C ~ 105C; Type: Polar; Ripple Current: 392mA; Value: 47uF; PartId: 23382; Supplier 1: Digi-Key; Supplier Part Number 1: 1189-2215-ND; ComponentLink1Description: Datasheet; ComponentLink1URL: http://www.rubycon.co.jp/en/catalog/e_pdfs/aluminum/e_bxc.pdf; ComponentLink2Description: Digi-Key Listing; ComponentLink2URL: https://www.digikey.com/product-detail/en/rubycon/250BXC47MEFC12.5X20/1189-2215-ND/3563982; Tolerance: 20%; Voltage: 250V; Price: 0.93; Device Package: Radial, Can, 12.5mm
footprint CAP AL TH D12.5 L5 H22
pins: 1, 2

## 250BXC68MEFC16X20
designator C?, comment 68uF  (value not drawn)
CAP ALUM 68UF 20% 250V RADIAL; Part Number: 250BXC68MEFC16X20; Manufacturer: Rubycon; TemperatureRange: -25C ~ 105C; Type: Polar; Ripple Current: 520mA; Value: 68uF; PartId: 26443; Supplier 1: Digi-Key; Supplier Part Number 1: 1189-2216-ND; ComponentLink1Description: Datasheet; ComponentLink1URL: http://www.rubycon.co.jp/en/catalog/e_pdfs/aluminum/e_bxc.pdf; ComponentLink2Description: Digi-Key Listing; ComponentLink2URL: https://www.digikey.com/product-detail/en/rubycon/250BXC68MEFC16X20/1189-2216-ND/3564349; Tolerance: 20%; Voltage: 250V; Price: 1.42; Device Package: Radial, Can, 16mm
footprint CAP AL TH D16 L7.5 H22
pins: 1, 2

## 250BXC100MEFC16X25
designator C?, comment 100uF  (value not drawn)
CAP ALUM 100UF 20% 250V RADIAL; Part Number: 250BXC100MEFC16X25; Manufacturer: Rubycon; TemperatureRange: -25C ~ 105C; Type: Polar; Ripple Current: 689mA; Value: 100uF; PartId: 26920; Supplier 1: Digi-Key; Supplier Part Number 1: 1189-2212-ND; ComponentLink1Description: Datasheet; ComponentLink1URL: http://www.rubycon.co.jp/en/catalog/e_pdfs/aluminum/e_bxc.pdf; ComponentLink2Description: Digi-Key Listing; ComponentLink2URL: https://www.digikey.com/product-detail/en/rubycon/250BXC100MEFC16X25/1189-2212-ND/3564423; Tolerance: 20%; Voltage: 250V; Price: 1.7; Device Package: Radial, Can, 16mm
footprint CAP AL TH D16 L7.5 H27
pins: 1, 2

## 250CFX10MEFC10X16
designator C?, comment 10uF  (value not drawn)
CAP ALUM 10UF 20% 250V RADIAL; Part Number: 250CFX10MEFC10X16; Manufacturer: Rubycon; TemperatureRange: -25C ~ 105C; Type: Polar; Ripple Current: 90mA; Value: 10uF; PartId: 25586; Supplier 1: Digi-Key; Supplier Part Number 1: 1189-2217-ND; ComponentLink1Description: Datasheet; ComponentLink1URL: http://www.rubycon.co.jp/en/catalog/e_pdfs/aluminum/e_cfx.pdf; ComponentLink2Description: Digi-Key Listing; ComponentLink2URL: https://www.digikey.com/product-detail/en/rubycon/250CFX10MEFC10X16/1189-2217-ND/3563655; Tolerance: 20%; Voltage: 250V; Price: 0.67; Device Package: Radial, Can, 10mm
footprint CAP AL TH D10 L5 H22
pins: 1, 2

## 250CFX22MEFC10X20
designator C?, comment 22uF  (value not drawn)
CAP ALUM 22UF 20% 250V RADIAL; Part Number: 250CFX22MEFC10X20; Manufacturer: Rubycon; TemperatureRange: -25C ~ 105C; Type: Polar; Ripple Current: 250mA; Value: 22uF; PartId: 25880; Supplier 1: Digi-Key; Supplier Part Number 1: 1189-2911-ND; ComponentLink1Description: Datasheet; ComponentLink1URL: http://www.rubycon.co.jp/en/catalog/e_pdfs/aluminum/e_cfx.pdf; ComponentLink2Description: Digi-Key Listing; ComponentLink2URL: https://www.digikey.com/product-detail/en/rubycon/250CFX22MEFC10X20/1189-2911-ND/3563753; Tolerance: 20%; Voltage: 250V; Price: 0.64; Device Package: Radial, Can, 10mm
footprint CAP AL TH D10 L5 H22
pins: 1, 2

## 250LEX8.2MEFC10X9
designator C?, comment 8.2uF  (value not drawn)
CAP ALUM 8.2UF 20% 250V RADIAL; Part Number: 250LEX8.2MEFC10X9; Manufacturer: Rubycon; TemperatureRange: -40C ~ 125C; Type: Polar; Ripple Current: 76mA; Value: 8.2uF; PartId: 24483; Supplier 1: Digi-Key; Supplier Part Number 1: 1189-2715-ND; ComponentLink1Description: Datasheet; ComponentLink1URL: http://www.rubycon.co.jp/en/catalog/e_pdfs/aluminum/e_lex.pdf; ComponentLink2Description: Digi-Key Listing; ComponentLink2URL: https://www.digikey.com/product-detail/en/rubycon/250LEX8.2MEFC10X9/1189-2715-ND/5051844; Tolerance: 20%; Voltage: 250V; Price: 0.67; Device Package: Radial, Can, 10mm
footprint CAP AL TH D10 L5 H12.5
pins: 1, 2

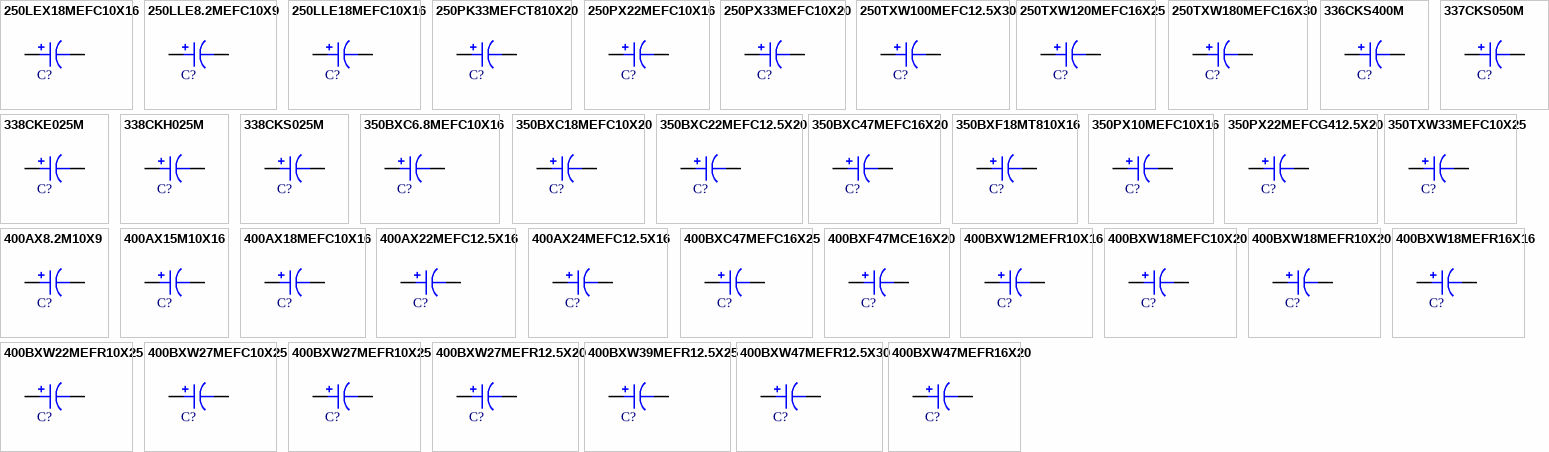
[diagram p10: symbols 250LEX18MEFC10X16 to 400BXW47MEFR16X20]

## 250LEX18MEFC10X16
designator C?, comment 18uF  (value not drawn)
CAP ALUM 18UF 20% 250V RADIAL; Part Number: 250LEX18MEFC10X16; Manufacturer: Rubycon; TemperatureRange: -40C ~ 125C; Type: Polar; Ripple Current: 127mA; Value: 18uF; PartId: 25697; Supplier 1: Digi-Key; Supplier Part Number 1: 1189-2718-ND; ComponentLink1Description: Datasheet; ComponentLink1URL: http://www.rubycon.co.jp/en/catalog/e_pdfs/aluminum/e_lex.pdf; ComponentLink2Description: Digi-Key Listing; ComponentLink2URL: https://www.digikey.com/product-detail/en/rubycon/250LEX18MEFC10X16/1189-2718-ND/5051847; Tolerance: 20%; Voltage: 250V; Price: 0.83; Device Package: Radial, Can, 10mm
footprint CAP AL TH D10 L5 H22
pins: 1, 2

## 250LLE8.2MEFC10X9
designator C?, comment 8.2uF  (value not drawn)
CAP ALUM 8.2UF 20% 250V RADIAL; Part Number: 250LLE8.2MEFC10X9; Manufacturer: Rubycon; TemperatureRange: -40C ~ 105C; Ripple Current: 76mA; Value: 8.2uF; PartId: 24470; Supplier 1: Digi-Key; Supplier Part Number 1: 1189-2226-ND; ComponentLink1Description: Datasheet; ComponentLink1URL: http://www.rubycon.co.jp/en/catalog/e_pdfs/aluminum/e_lle.pdf; ComponentLink2Description: Digi-Key Listing; ComponentLink2URL: https://www.digikey.com/product-detail/en/rubycon/250LLE8.2MEFC10X9/1189-2226-ND/4842255; Tolerance: 20%; Voltage: 250V; Price: 0.58; Device Package: Radial, Can, 10mm
footprint CAP AL TH D10 L5 H12.5
pins: 1, 2

## 250LLE18MEFC10X16
designator C?, comment 18uF  (value not drawn)
CAP ALUM 18UF 20% 250V RADIAL; Part Number: 250LLE18MEFC10X16; Manufacturer: Rubycon; TemperatureRange: -40C ~ 105C; Ripple Current: 127mA; Value: 18uF; PartId: 25595; Supplier 1: Digi-Key; Supplier Part Number 1: 1189-2221-ND; ComponentLink1Description: Datasheet; ComponentLink1URL: http://www.rubycon.co.jp/en/catalog/e_pdfs/aluminum/e_lle.pdf; ComponentLink2Description: Digi-Key Listing; ComponentLink2URL: https://www.digikey.com/product-detail/en/rubycon/250LLE18MEFC10X16/1189-2221-ND/4842250; Tolerance: 20%; Voltage: 250V; Price: 0.68; Device Package: Radial, Can, 10mm
footprint CAP AL TH D10 L5 H22
pins: 1, 2

## 250PK33MEFCT810X20
designator C?, comment 33uF  (value not drawn)
CAP ALUM 33UF 20% 250V RADIAL; Part Number: 250PK33MEFCT810X20; Manufacturer: Rubycon; TemperatureRange: -40C ~ 85C; Ripple Current: 205mA; Value: 33uF; PartId: 25809; Supplier 1: Digi-Key; Supplier Part Number 1: 1189-1580-2-ND; ComponentLink1Description: Datasheet; ComponentLink1URL: http://www.rubycon.co.jp/en/catalog/e_pdfs/aluminum/e_pk.pdf; ComponentLink2Description: Digi-Key Listing; ComponentLink2URL: https://www.digikey.com/product-detail/en/rubycon/250PK33MEFCT810X20/1189-1580-2-ND/3134860; Tolerance: 20%; Voltage: 250V; Price: 0.3289; Device Package: Radial, Can, 10mm
footprint CAP AL TH D10 L5 H22
pins: 1, 2

## 250PX22MEFC10X16
designator C?, comment 22uF  (value not drawn)
CAP ALUM 22UF 20% 250V RADIAL; Part Number: 250PX22MEFC10X16; Manufacturer: Rubycon; TemperatureRange: -40C ~ 105C; Type: Polar; Ripple Current: 105mA; Value: 22uF; PartId: 25603; Supplier 1: Digi-Key; Supplier Part Number 1: 1189-1206-ND; ComponentLink1Description: Datasheet; ComponentLink1URL: http://www.rubycon.co.jp/en/catalog/e_pdfs/aluminum/e_px.pdf; ComponentLink2Description: Digi-Key Listing; ComponentLink2URL: https://www.digikey.com/product-detail/en/rubycon/250PX22MEFC10X16/1189-1206-ND/3134163; Tolerance: 20%; Voltage: 250V; Price: 0.69; Device Package: Radial, Can, 10mm
footprint CAP AL TH D10 L5 H22
pins: 1, 2

## 250PX33MEFC10X20
designator C?, comment 33uF  (value not drawn)
CAP ALUM 33UF 20% 250V RADIAL; Part Number: 250PX33MEFC10X20; Manufacturer: Rubycon; TemperatureRange: -40C ~ 105C; Type: Polar; Ripple Current: 140mA; Value: 33uF; PartId: 25964; Supplier 1: Digi-Key; Supplier Part Number 1: 1189-1208-ND; ComponentLink1Description: Datasheet; ComponentLink1URL: http://www.rubycon.co.jp/en/catalog/e_pdfs/aluminum/e_px.pdf; ComponentLink2Description: Digi-Key Listing; ComponentLink2URL: https://www.digikey.com/product-detail/en/rubycon/250PX33MEFC10X20/1189-1208-ND/3134165; Tolerance: 20%; Voltage: 250V; Price: 0.84; Device Package: Radial, Can, 10mm
footprint CAP AL TH D10 L5 H22
pins: 1, 2

## 250TXW100MEFC12.5X30
designator C?, comment 100uF  (value not drawn)
CAP ALUM 100UF 20% 250V RADIAL; Part Number: 250TXW100MEFC12.5X30; Manufacturer: Rubycon; TemperatureRange: -25C ~ 105C; Type: Polar; Ripple Current: 690mA; Value: 100uF; PartId: 24404; Supplier 1: Digi-Key; Supplier Part Number 1: 1189-1209-ND; ComponentLink1Description: Datasheet; ComponentLink1URL: http://www.rubycon.co.jp/en/catalog/e_pdfs/aluminum/e_txw.pdf; ComponentLink2Description: Digi-Key Listing; ComponentLink2URL: https://www.digikey.com/product-detail/en/rubycon/250TXW100MEFC12.5X30/1189-1209-ND/3134166; Tolerance: 20%; Voltage: 250V; Price: 1.92; Device Package: Radial, Can, 12.5mm
footprint CAP AL TH D12.5 L5 H35.5
pins: 1, 2

## 250TXW120MEFC16X25
designator C?, comment 120uF  (value not drawn)
CAP ALUM 120UF 20% 250V RADIAL; Part Number: 250TXW120MEFC16X25; Manufacturer: Rubycon; TemperatureRange: -25C ~ 105C; Type: Polar; Ripple Current: 740mA; Value: 120uF; PartId: 27257; Supplier 1: Digi-Key; Supplier Part Number 1: 1189-1210-ND; ComponentLink1Description: Datasheet; ComponentLink1URL: http://www.rubycon.co.jp/en/catalog/e_pdfs/aluminum/e_txw.pdf; ComponentLink2Description: Digi-Key Listing; ComponentLink2URL: https://www.digikey.com/product-detail/en/rubycon/250TXW120MEFC16X25/1189-1210-ND/3134167; Tolerance: 20%; Voltage: 250V; Price: 2.77; Device Package: Radial, Can, 16mm
footprint CAP AL TH D16 L7.5 H33.5
pins: 1, 2

## 250TXW180MEFC16X30
designator C?, comment 180uF  (value not drawn)
CAP ALUM 180UF 20% 250V RADIAL; Part Number: 250TXW180MEFC16X30; Manufacturer: Rubycon; TemperatureRange: -25C ~ 105C; Type: Polar; Ripple Current: 950mA; Value: 180uF; PartId: 27234; Supplier 1: Digi-Key; Supplier Part Number 1: 1189-1767-ND; ComponentLink1Description: Datasheet; ComponentLink1URL: http://www.rubycon.co.jp/en/catalog/e_pdfs/aluminum/e_txw.pdf; ComponentLink2Description: Digi-Key Listing; ComponentLink2URL: https://www.digikey.com/product-detail/en/rubycon/250TXW180MEFC16X30/1189-1767-ND/3564511; Tolerance: 20%; Voltage: 250V; Price: 2.47; Device Package: Radial, Can, 16mm
footprint CAP AL TH D16 L7.5 H33.5
pins: 1, 2